# Altium footprint library 常用元件封装.PCBLIB: 167 footprints (part 6 of 11)
Each footprint in its own frame and in the unit in brackets; x right, y up, seen from the top. Pads: shape width x height; smd on the part's side, far side on the other; paste and mask are expansions set on the pad; w line width, h text height; cw(c..) or ccw(c..) is an arc to the next point about the centre after c.
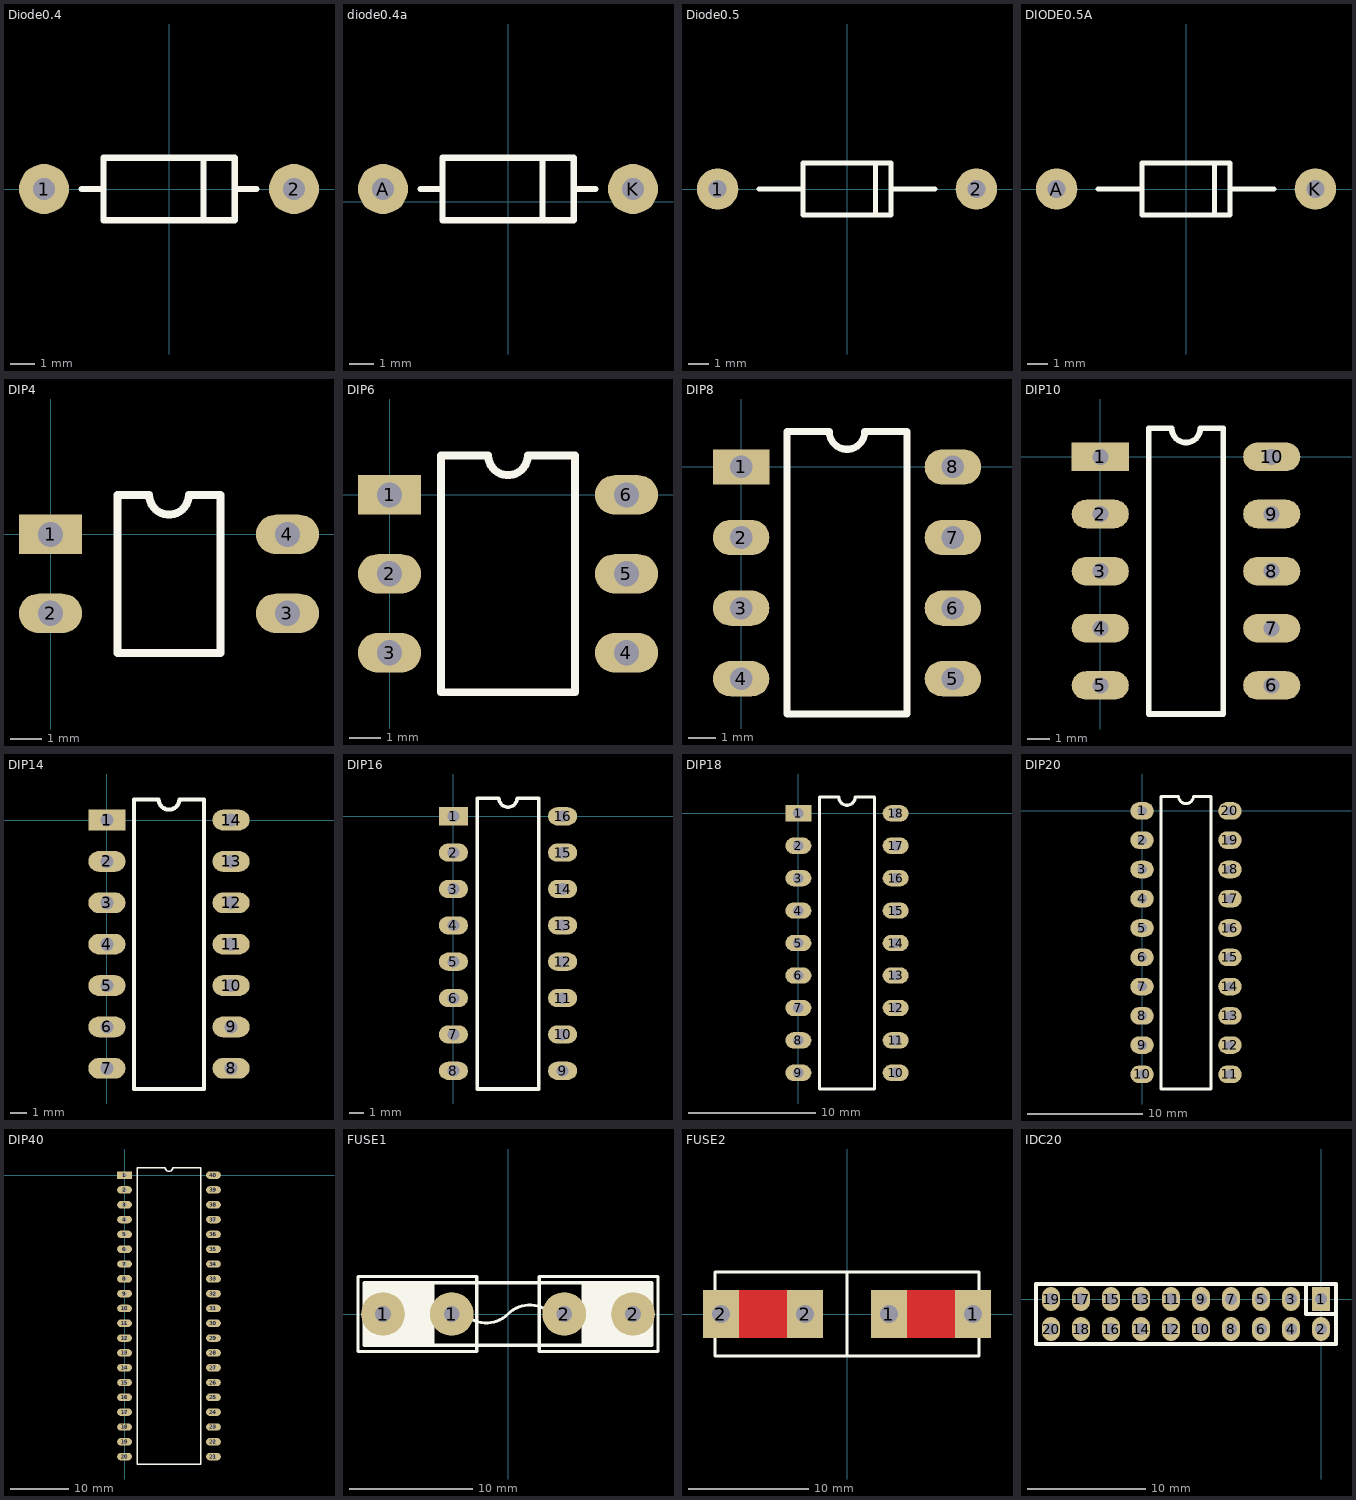
[diagram p5: the footprints below, top view; thin cyan lines are the x and y axes]

## Diode0.4 [mil]
pads (2):
  round 80 hole 35: 1(-200,0) 2(200,0)
TopOverlay:
  lines w10: -140,0 -105,0 ; 55,-50 55,50 ; 105,0 140,0 ; -105,-50 -105,-10 -105,50 105,50 105,-50 -105,-50

## diode0.4a [mil]
pads (2):
  round 80 hole 35: A(-200,20) K(200,20)
TopOverlay:
  lines w10: -140,20 -105,20 ; 55,-30 55,70 ; 105,20 140,20 ; -105,-30 -105,10 -105,70 105,70 105,-30 -105,-30

## Diode0.5 [mil]
pads (2):
  round 80 hole 35: 1(-250,0) 2(250,0)
TopOverlay:
  lines w10: -170,0 -85,0 ; 55,-50 55,50 ; 85,0 170,0 ; -85,0 -85,-50 85,-50 85,50 -85,50 -85,0

## DIODE0.5A [mil]
pads (2):
  round 80 hole 35: A(-250,0) K(250,0)
TopOverlay:
  lines w10: -170,0 -85,0 ; 55,-50 55,50 ; 85,0 170,0 ; -85,0 -85,-50 85,-50 85,50 -85,50 -85,0

## DIP4 [mil]
pads (4):
  rect 80x50 hole 32: 1(0,0)
  oval 80x50 hole 32: 2(0,-100) 3(300,-100) 4(300,0)
TopOverlay:
  lines w10: 85,-150 215,-150 215,50 175,50 cw(c150,50) 125,50 85,50 85,-150

## DIP6 [mil]
pads (6):
  rect 80x50 hole 32: 1(0,0)
  oval 80x50 hole 32: 2(0,-100) 3(0,-200) 4(300,-200) 5(300,-100) 6(300,0)
TopOverlay:
  lines w10: 65,-250 65,50 125,50 ccw(c150,50) 175,50 235,50 235,-250 65,-250

## DIP8 [mil]
pads (8):
  rect 80x50 hole 32: 1(0,0)
  oval 80x50 hole 32: 2(0,-100) 3(0,-200) 4(0,-300) 5(300,-300) 6(300,-200) 7(300,-100) 8(300,0)
TopOverlay:
  lines w10: 65,-350 65,50 125,50 ccw(c150,50) 175,50 235,50 235,-350 65,-350

## DIP10 [mil]
pads (10):
  rect 100x50 hole 28: 1(0,0)
  oval 100x50 hole 28: 2(0,-100) 3(0,-200) 4(0,-300) 5(0,-400) 6(300,-400) 7(300,-300) 8(300,-200) 9(300,-100) 10(300,0)
TopOverlay:
  lines w10: 85,-450 215,-450 215,50 175,50 cw(c150,50) 125,50 85,50 85,-450

## DIP14 [mil]
pads (14):
  rect 90x50 hole 32: 1(0,0)
  oval 90x50 hole 32: 2(0,-100) 3(0,-200) 4(0,-300) 5(0,-400) 6(0,-500) 7(0,-600) 8(300,-600) 9(300,-500) 10(300,-400) 11(300,-300) 12(300,-200) 13(300,-100) 14(300,0)
TopOverlay:
  lines w10: 65,-650 65,50 125,50 ccw(c150,50) 175,50 235,50 235,-650 65,-650

## DIP16 [mil]
pads (16):
  rect 80x50 hole 32: 1(0,0)
  oval 80x50 hole 32: 2(0,-100) 3(0,-200) 4(0,-300) 5(0,-400) 6(0,-500) 7(0,-600) 8(0,-700) 9(300,-700) 10(300,-600) 11(300,-500) 12(300,-400) 13(300,-300) 14(300,-200) 15(300,-100) 16(300,0)
TopOverlay:
  lines w10: 65,-750 65,50 125,50 ccw(c150,50) 175,50 235,50 235,-750 65,-750

## DIP18 [mil]
pads (18):
  rect 80x50 hole 32: 1(0,0)
  oval 80x50 hole 32: 2(0,-100) 3(0,-200) 4(0,-300) 5(0,-400) 6(0,-500) 7(0,-600) 8(0,-700) 9(0,-800) 10(300,-800) 11(300,-700) 12(300,-600) 13(300,-500) 14(300,-400) 15(300,-300) 16(300,-200) 17(300,-100) 18(300,0)
TopOverlay:
  lines w10: 65,-850 65,50 125,50 ccw(c150,50) 175,50 235,50 235,-850 65,-850

## DIP20 [mil]
pads (20):
  oval 80x60 hole 32: 1(0,0) 2(0,-100) 3(0,-200) 4(0,-300) 5(0,-400) 6(0,-500) 7(0,-600) 8(0,-700) 9(0,-800) 10(0,-900) 11(300,-900) 12(300,-800) 13(300,-700) 14(300,-600) 15(300,-500) 16(300,-400) 17(300,-300) 18(300,-200) 19(300,-100) 20(300,0)
TopOverlay:
  lines w10: 65,-950 235,-950 235,50 175,50 cw(c150,50) 125,50 65,50 65,-950

## DIP40 [mil]
pads (40):
  rect 100x50 hole 25: 1(0,0)
  oval 100x50 hole 25: 2(0,-100) 3(0,-200) 4(0,-300) 5(0,-400) 6(0,-500) 7(0,-600) 8(0,-700) 9(0,-800) 10(0,-900) 11(0,-1000) 12(0,-1100) 13(0,-1200) 14(0,-1300) 15(0,-1400) 16(0,-1500) 17(0,-1600) 18(0,-1700) 19(0,-1800) 20(0,-1900) 21(600,-1900) 22(600,-1800) 23(600,-1700) 24(600,-1600) 25(600,-1500) 26(600,-1400) 27(600,-1300) 28(600,-1200) 29(600,-1100) 30(600,-1000) 31(600,-900) 32(600,-800) 33(600,-700) 34(600,-600) 35(600,-500) 36(600,-400) 37(600,-300) 38(600,-200) 39(600,-100) 40(600,0)
TopOverlay:
  lines w10: 85,-1950 85,50 275,50 ccw(c300,50) 325,50 515,50 515,-1950 85,-1950

## FUSE1 [mil]
pads (4):
  round 140 hole 50: 1(-400,0) 1(-180,0) 2(180,0) 2(400,0)
TopOverlay:
  rectangle: 240,-100 460,100
  rectangle: -460,-100 -240,100
  lines w10: -240,-100 -240,100 ; -140,0 ccw(c-70,70) 0,0 cw(c70,-70) 140,0 ; 240,-100 240,100 ; -480,-120 -100,-120 -100,120 -480,120 -480,0 -480,-120 ; -460,-100 -460,100 440,100 460,100 460,-100 -460,-100 ; 100,-120 480,-120 480,120 100,120 100,-120

## FUSE2 [mil]
pads (4):
  rect 118x157 hole 59: 1(137.5,0) 1(413.5,0) 2(-413.5,0) 2(-137.5,0)
TopLayer:
  rectangle: -373.5,-79 -177.5,79
  rectangle: 177.5,-79 374.5,79
BottomLayer:
  rectangle: 177.5,-79 374.5,79
  rectangle: -373.5,-79 -177.5,79
TopOverlay:
  lines w10: 0.5,-138 0.5,138 ; -432.5,-138 433.5,-138 433.5,138 -432.5,138 -432.5,-138

## IDC20 [mil]
pads (20):
  rect 60x80 hole 40: 1(0,0)
  oval 60x80 hole 40: 2(0,-100) 3(-100,0) 4(-100,-100) 5(-200,0) 6(-200,-100) 7(-300,0) 8(-300,-100) 9(-400,0) 10(-400,-100) 11(-500,0) 12(-500,-100) 13(-600,0) 14(-600,-100) 15(-700,0) 16(-700,-100) 17(-800,0) 18(-800,-100) 19(-900,0) 20(-900,-100)
TopOverlay:
  lines w12: -50,50 -50,-50 50,-50 ; -950,-150 50,-150 50,50 -950,50 -950,-150